# Altium integrated library WL-SMCW_rev15b.intlib: 19 symbols
Pins are listed as number, name and electrical type; pins without a type are passive.

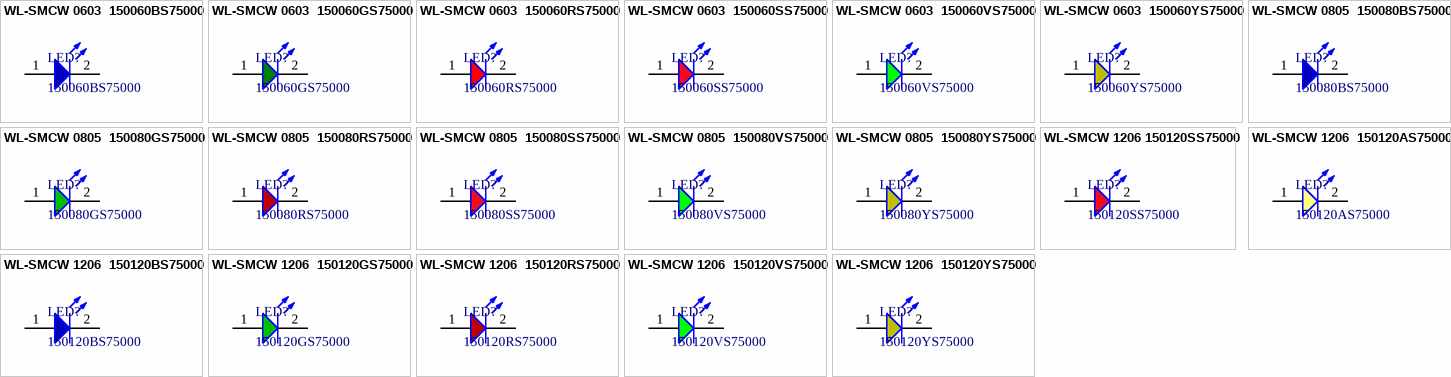
[diagram p0: symbols WL-SMCW 0603  150060BS75000 to WL-SMCW 1206  150120YS75000]

## WL-SMCW 0603  150060BS75000
designator LED?, comment 150060BS75000
SMD mono-color Chip LED, WL-SMCW, Blue; Manufacturer: W黵th Elektronik eiSos GmbH; PartNo: 150060BS75000; ComponentLink1Description: Manufacturer; ComponentLink1URL: http://www.we-online.de; Created by: Christin Otto; Created Date: June 2013; ComponentLink2Description: Datasheet; ComponentLink2URL: http://katalog.we-online.com/led/datasheet/150060BS75000.pdf; Color: Blue
footprint LED_0603_Blue (Chip LED, 2-Leads, Body 1.6x0.8mm, IPC Medium Density)
pins: 1 A, 2 C

## WL-SMCW 0603  150060GS75000
designator LED?, comment 150060GS75000
SMD mono-color Chip LED, WL-SMCW, Green; Manufacturer: W黵th Elektronik eiSos GmbH; PartNo: 150060GS75000; ComponentLink1Description: Manufacturer; ComponentLink1URL: http://www.we-online.de; Created by: Christin Otto; Created Date: June 2013; ComponentLink2Description: Datasheet; ComponentLink2URL: http://katalog.we-online.com/led/datasheet/150060GS75000.pdf; Color: Green
footprint LED_0603_Green (Chip LED, 2-Leads, Body 1.6x0.8mm, IPC Medium Density)
pins: 1 A, 2 C

## WL-SMCW 0603  150060RS75000
designator LED?, comment 150060RS75000
SMD mono-color Chip LED, WL-SMCW, Red; Manufacturer: W黵th Elektronik eiSos GmbH; PartNo: 150060RS75000; ComponentLink1Description: Manufacturer; ComponentLink1URL: http://www.we-online.de; Created by: Christin Otto; Created Date: June 2013; ComponentLink2Description: Datasheet; ComponentLink2URL: http://katalog.we-online.com/led/datasheet/150060RS75000.pdf; Color: Red
footprint LED_0603_Red (Chip LED, 2-Leads, Body 1.6x0.8mm, IPC Medium Density)
pins: 1 A, 2 C

## WL-SMCW 0603  150060SS75000
designator LED?, comment 150060SS75000
SMD mono-color Chip LED, WL-SMCW, Super Red; Manufacturer: W黵th Elektronik eiSos GmbH; PartNo: 150060SS75000; ComponentLink1Description: Manufacturer; ComponentLink1URL: http://www.we-online.de; Created by: Christin Otto; Created Date: June 2013; ComponentLink2Description: Datasheet; ComponentLink2URL: http://katalog.we-online.com/led/datasheet/150060SS75000.pdf; Color: Super Red
footprint LED_0603_Super Red (Chip LED, 2-Leads, Body 1.6x0.8mm, IPC Medium Density)
pins: 1 A, 2 C

## WL-SMCW 0603  150060VS75000
designator LED?, comment 150060VS75000
SMD mono-color Chip LED, WL-SMCW, Bright Green; Manufacturer: W黵th Elektronik eiSos GmbH; PartNo: 150060VS75000; ComponentLink1Description: Manufacturer; ComponentLink1URL: http://www.we-online.de; Created by: Christin Otto; Created Date: June 2013; ComponentLink2Description: Datasheet; ComponentLink2URL: http://katalog.we-online.com/led/datasheet/150060VS75000.pdf; Color: Bright Green
footprint LED_0603_Bright Green (Chip LED, 2-Leads, Body 1.6x0.8mm, IPC Medium Density)
pins: 1 A, 2 C

## WL-SMCW 0603  150060YS75000
designator LED?, comment 150060YS75000
SMD mono-color Chip LED, WL-SMCW, Yellow; Manufacturer: W黵th Elektronik eiSos GmbH; PartNo: 150060YS75000; ComponentLink1Description: Manufacturer; ComponentLink1URL: http://www.we-online.de; Created by: Christin Otto; Created Date: June 2013; ComponentLink2Description: Datasheet; ComponentLink2URL: http://katalog.we-online.com/led/datasheet/150060YS75000.pdf; Color: Yellow
footprint LED_0603_Yellow (Chip LED, 2-Leads, Body 1.6x0.8mm, IPC Medium Density)
pins: 1 A, 2 C

## WL-SMCW 0805  150080BS75000
designator LED?, comment 150080BS75000
SMD mono-color Chip LED, WL-SMCW, Blue; Manufacturer: W黵th Elektronik eiSos GmbH; PartNo: 150080BS75000; ComponentLink1Description: Manufacturer; ComponentLink1URL: http://www.we-online.de; Created by: Christin Otto; Created Date: June 2013; ComponentLink2Description: Datasheet; ComponentLink2URL: http://katalog.we-online.com/led/datasheet/150080BS75000.pdf; Color: Blue
footprint LED_0805_Blue (Chip LED, 2-Leads, Body 2.0x1.3mm, IPC Medium Density)
pins: 1 A, 2 C

## WL-SMCW 0805  150080GS75000
designator LED?, comment 150080GS75000
SMD mono-color Chip LED, WL-SMCW, Green; Manufacturer: W黵th Elektronik eiSos GmbH; PartNo: 150080GS75000; ComponentLink1Description: Manufacturer; ComponentLink1URL: http://www.we-online.de; Created by: Christin Otto; Created Date: June 2013; ComponentLink2Description: Datasheet; ComponentLink2URL: http://katalog.we-online.com/led/datasheet/150080GS75000.pdf; Color: Green
footprint LED_0805_Green (Chip LED, 2-Leads, Body 2.0x1.3mm, IPC Medium Density)
pins: 1 A, 2 C

## WL-SMCW 0805  150080RS75000
designator LED?, comment 150080RS75000
SMD mono-color Chip LED, WL-SMCW, Red; Manufacturer: W黵th Elektronik eiSos GmbH; PartNo: 150080RS75000; ComponentLink1Description: Manufacturer; ComponentLink1URL: http://www.we-online.de; Created by: Christin Otto; Created Date: June 2013; ComponentLink2Description: Datasheet; ComponentLink2URL: http://katalog.we-online.com/led/datasheet/150080RS75000.pdf; Color: Red
footprint LED_0805_Red (Chip LED, 2-Leads, Body 2.0x1.3mm, IPC Medium Density)
pins: 1 A, 2 C

## WL-SMCW 0805  150080SS75000
designator LED?, comment 150080SS75000
SMD mono-color Chip LED, WL-SMCW, Super Red; Manufacturer: W黵th Elektronik eiSos GmbH; PartNo: 150080SS75000; ComponentLink1Description: Manufacturer; ComponentLink1URL: http://www.we-online.de; Created by: Christin Otto; Created Date: June 2013; ComponentLink2Description: Datasheet; ComponentLink2URL: http://katalog.we-online.com/led/datasheet/150080SS75000.pdf; Color: Super Red
footprint LED_0805_Super Red (Chip LED, 2-Leads, Body 2.0x1.3mm, IPC Medium Density)
pins: 1 A, 2 C

## WL-SMCW 0805  150080VS75000
designator LED?, comment 150080VS75000
SMD mono-color Chip LED, WL-SMCW, Bright Green; Manufacturer: W黵th Elektronik eiSos GmbH; PartNo: 150080VS75000; ComponentLink1Description: Manufacturer; ComponentLink1URL: http://www.we-online.de; Created by: Christin Otto; Created Date: June 2013; ComponentLink2Description: Datasheet; ComponentLink2URL: http://katalog.we-online.com/led/datasheet/150080VS75000.pdf; Color: Bright Green
footprint LED_0805_Bright Green (Chip LED, 2-Leads, Body 2.0x1.3mm, IPC Medium Density)
pins: 1 A, 2 C

## WL-SMCW 0805  150080YS75000
designator LED?, comment 150080YS75000
SMD mono-color Chip LED, WL-SMCW, Yellow; Manufacturer: W黵th Elektronik eiSos GmbH; PartNo: 150080YS75000; ComponentLink1Description: Manufacturer; ComponentLink1URL: http://www.we-online.de; Created by: Christin Otto; Created Date: June 2013; ComponentLink2Description: Datasheet; ComponentLink2URL: http://katalog.we-online.com/led/datasheet/150080YS75000.pdf; Color: Yellow
footprint LED_0805_Yellow (Chip LED, 2-Leads, Body 2.0x1.3mm, IPC Medium Density)
pins: 1 A, 2 C

## WL-SMCW 1206 150120SS75000
designator LED?, comment 150120SS75000
SMD mono-color Chip LED, WL-SMCW, Super Red; Manufacturer: W黵th Elektronik eiSos GmbH; PartNo: 150120SS75000; ComponentLink1Description: Manufacturer; ComponentLink1URL: http://www.we-online.de; Created by: Christin Otto; Created Date: June 2013; ComponentLink2Description: Datasheet; ComponentLink2URL: http://katalog.we-online.com/led/datasheet/150120SS75000.pdf; Color: Super Red
footprint LED_1206_Super Red (Chip LED, 2-Leads, Body 3.2x1.6mm, IPC Medium Density)
pins: 1 A, 2 C

## WL-SMCW 1206  150120AS75000
designator LED?, comment 150120AS75000
SMD mono-color Chip LED, WL-SMCW, Amber; Manufacturer: W黵th Elektronik eiSos GmbH; PartNo: 150120AS75000; ComponentLink1Description: Manufacturer; ComponentLink1URL: http://www.we-online.de; Created by: Christin Otto; Created Date: June 2013; ComponentLink2Description: Datasheet; ComponentLink2URL: http://katalog.we-online.com/led/datasheet/150120AS75000.pdf; Color: Amber
footprint LED_1206_Amber (Chip LED, 2-Leads, Body 3.2x1.6mm, IPC Medium Density)
pins: 1 A, 2 C

## WL-SMCW 1206  150120BS75000
designator LED?, comment 150120BS75000
SMD mono-color Chip LED, WL-SMCW, Blue; Manufacturer: W黵th Elektronik eiSos GmbH; PartNo: 150120BS75000; ComponentLink1Description: Manufacturer; ComponentLink1URL: http://www.we-online.de; Created by: Christin Otto; Created Date: June 2013; ComponentLink2Description: Datasheet; ComponentLink2URL: http://katalog.we-online.com/led/datasheet/150120BS75000.pdf; Color: Blue
footprint LED_1206_Blue (Chip LED, 2-Leads, Body 3.2x1.6mm, IPC Medium Density)
pins: 1 A, 2 C

## WL-SMCW 1206  150120GS75000
designator LED?, comment 150120GS75000
SMD mono-color Chip LED, WL-SMCW, Green; Manufacturer: W黵th Elektronik eiSos GmbH; PartNo: 150120GS75000; ComponentLink1Description: Manufacturer; ComponentLink1URL: http://www.we-online.de; Created by: Christin Otto; Created Date: June 2013; ComponentLink2Description: Datasheet; ComponentLink2URL: http://katalog.we-online.com/led/datasheet/150120GS75000.pdf; Color: Green
footprint LED_1206_Green (Chip LED, 2-Leads, Body 3.2x1.6mm, IPC Medium Density)
pins: 1 A, 2 C

## WL-SMCW 1206  150120RS75000
designator LED?, comment 150120RS75000
SMD mono-color Chip LED, WL-SMCW, Red; Manufacturer: W黵th Elektronik eiSos GmbH; PartNo: 150120RS75000; ComponentLink1Description: Manufacturer; ComponentLink1URL: http://www.we-online.de; Created by: Christin Otto; Created Date: June 2013; ComponentLink2Description: Datasheet; ComponentLink2URL: http://katalog.we-online.com/led/datasheet/150120RS75000.pdf; Color: Red
footprint LED_1206_Red (Chip LED, 2-Leads, Body 3.2x1.6mm, IPC Medium Density)
pins: 1 A, 2 C

## WL-SMCW 1206  150120VS75000
designator LED?, comment 150120VS75000
SMD mono-color Chip LED, WL-SMCW, Bright Green; Manufacturer: W黵th Elektronik eiSos GmbH; PartNo: 150120VS75000; ComponentLink1Description: Manufacturer; ComponentLink1URL: http://www.we-online.de; Created by: Christin Otto; Created Date: June 2013; ComponentLink2Description: Datasheet; ComponentLink2URL: http://katalog.we-online.com/led/datasheet/150120VS75000.pdf; Color: Bright Green
footprint LED_1206_Bright_Green (Chip LED, 2-Leads, Body 3.2x1.6mm, IPC Medium Density)
pins: 1 A, 2 C

## WL-SMCW 1206  150120YS75000
designator LED?, comment 150120YS75000
SMD mono-color Chip LED, WL-SMCW, Yellow; Manufacturer: W黵th Elektronik eiSos GmbH; PartNo: 150120YS75000; ComponentLink1Description: Manufacturer; ComponentLink1URL: http://www.we-online.de; Created by: Christin Otto; Created Date: June 2013; ComponentLink2Description: Datasheet; ComponentLink2URL: http://katalog.we-online.com/led/datasheet/150120YS75000.pdf; Color: Yellow
footprint LED_1206_Yellow (Chip LED, 2-Leads, Body 3.2x1.6mm, IPC Medium Density)
pins: 1 A, 2 C